# EAGLE library part MAX9095ASD+ (library ruark2)
Comparator General Purpose Open Drain 14-SOIC
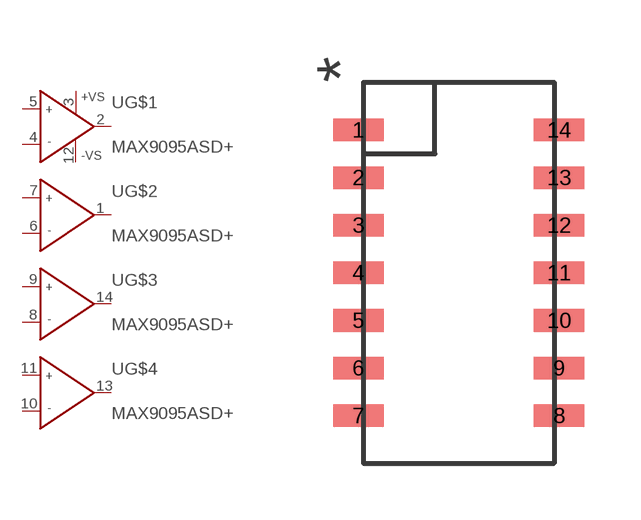
[diagram p50: symbol with the pads of SO14; footprint SO14]

Designator prefix U; gates G$1=OP+- G$2=OP G$3=OP G$4=OP

## MAX9095ASD+ (PARTNO: MAX9095ASD+-ND)  [SO14]
1  G$2:OUT  out
2  G$1:OUT  out
3  G$1:+VS  in
4  G$1:IN-  in
5  G$1:IN+  in
6  G$2:IN-  in
7  G$2:IN+  in
8  G$3:IN-  in
9  G$3:IN+  in
10  G$4:IN-  in
11  G$4:IN+  in
12  G$1:-VS  in
13  G$4:OUT  out
14  G$3:OUT  out

## Footprint SO14 (pad centres in mm)
smd 1.35 x 0.6: 1 -2.675,3.81; 2 -2.675,2.54; 3 -2.675,1.27; 4 -2.675,0; 5 -2.675,-1.27; 6 -2.675,-2.54; 7 -2.675,-3.81; 8 2.675,-3.81; 9 2.675,-2.54; 10 2.675,-1.27; 11 2.675,0; 12 2.675,1.27; 13 2.675,2.54; 14 2.675,3.81